# Altium footprint library Ebay Power Supplies.PcbLib: 2 footprints
Each footprint in its own frame and in the unit in brackets; x right, y up, seen from the top. Pads: shape width x height; smd on the part's side, far side on the other; paste and mask are expansions set on the pad; w line width, h text height; cw(c..) or ccw(c..) is an arc to the next point about the centre after c.
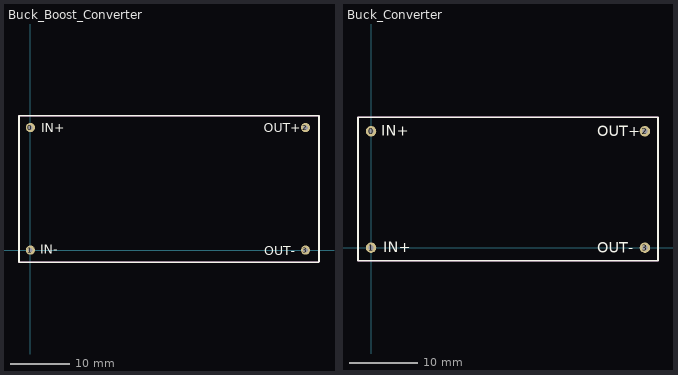
[diagram p0: the footprints below, top view; thin cyan lines are the x and y axes]

## Buck_Boost_Converter [mil]
pads (4):
  round 60 hole 30: 0(0,807.09) 1(0,0) 2(1811.02,807.09) 3(1811.02,0)
Top Overlay:
  lines w10: 1895,-80 1900,-75
  text "OUT+" at 1535,775 h60
  text "OUT-" at 1540,-35 h60
  text "IN-" at 65,-25 h60
  text "IN+" at 70,775 h60
Top Overlay keep-out:
  lines w10: 1895,-80 -75,-80 -75,885 1900,885 1900,-75
3D body: height 314.96, standoff 0, extent 945,-2.5 1375,435
3D body: height 314.96, standoff 0, extent 415,221.25 845,658.75
3D body: height 393.7, standoff 0, extent 12.52,282.73 327.48,597.28
3D body: height 393.7, standoff 0, extent 1457.52,217.72 1772.48,532.28
3D body: height 177.17, standoff 0, extent 950,545 1330,790

## Buck_Converter [mil]
pads (4):
  round 60 hole 30: 0(0,669.29) 1(0,0) 2(1574.8,669.29) 3(1574.8,0)
Top Overlay:
  text "IN+" at 60,645 h60
  text "IN+" at 70,-25 h60
  text "OUT-" at 1300,-30 h60
  text "OUT+" at 1300,640 h60
Top Overlay keep-out:
  lines w10: -75,-75 1650,-75 1650,750 -75,750 -75,-75